# Altium schematic symbol library Resistor.SchLib: 7 symbols
Pins are listed as number, name and electrical type; pins without a type are passive.

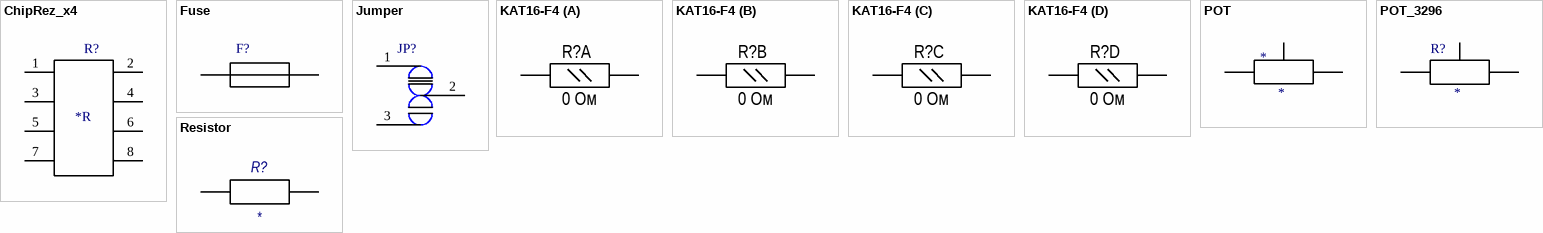
[diagram p0: symbols ChipRez_x4 to Resistor]

## ChipRez_x4
designator R?  (value not drawn)
pins: 1, 2, 3, 4, 5, 6, 7, 8
text: *R

## Fuse
designator F?  (value not drawn)
pins: 1, 2

## Jumper
designator JP?  (value not drawn)
pins: 1, 2, 3

## KAT16-F4
designator R?, comment 0 Ом
footprint CAT16_F4
part A pins: 1, 2
part B pins: 3, 4
part C pins: 5, 6
part D pins: 7, 8

## POT
designator *
pins: 1, 2, 3

## POT_3296
designator R?
pins: 1, 2, 3

## Resistor
designator R?
Value Sсh: *
pins: 1, 2